# EAGLE library part 621032242921 (library Wuerth_Elektronik_eiCan_Pin_&_Socked_Headers_v1.3)
WR-PHD 2.00mm Dual SMT Socket Header, 32 Pins
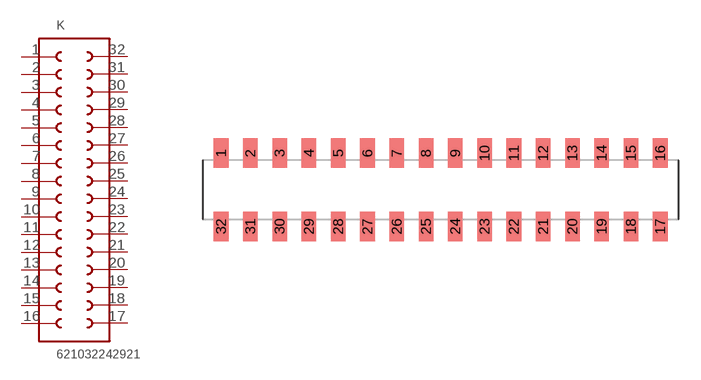
[diagram p310: symbol with the pads of 621032242921; footprint 621032242921]

Designator prefix K

## 621032242921  [621032242921]
1  1  pas
2  2  pas
3  3  pas
4  4  pas
5  5  pas
6  6  pas
7  7  pas
8  8  pas
9  9  pas
10  10  pas
11  11  pas
12  12  pas
13  13  pas
14  14  pas
15  15  pas
16  16  pas
17  17  pas
18  18  pas
19  19  pas
20  20  pas
21  21  pas
22  22  pas
23  23  pas
24  24  pas
25  25  pas
26  26  pas
27  27  pas
28  28  pas
29  29  pas
30  30  pas
31  31  pas
32  32  pas

## Footprint 621032242921 (pad centres in mm)
WR-PHD 2.00mm Dual SMT Socket Header, 32 Pins
smd 1 x 2: 1 -15,2.5; 2 -13,2.5; 3 -11,2.5; 4 -9,2.5; 5 -7,2.5; 6 -5,2.5; 7 -3,2.5; 8 -1,2.5; 9 1,2.5; 10 3,2.5; 11 5,2.5; 12 7,2.5; 13 9,2.5; 14 11,2.5; 15 13,2.5; 16 15,2.5; 17 15,-2.5; 18 13,-2.5; 19 11,-2.5; 20 9,-2.5; 21 7,-2.5; 22 5,-2.5; 23 3,-2.5; 24 1,-2.5; 25 -1,-2.5; 26 -3,-2.5; 27 -5,-2.5; 28 -7,-2.5; 29 -9,-2.5; 30 -11,-2.5; 31 -13,-2.5; 32 -15,-2.5